# Altium footprint library DCDC_LDO.PcbLib: 11 footprints
Each footprint in its own frame and in the unit in brackets; x right, y up, seen from the top. Pads: shape width x height; smd on the part's side, far side on the other; paste and mask are expansions set on the pad; w line width, h text height; cw(c..) or ccw(c..) is an arc to the next point about the centre after c.
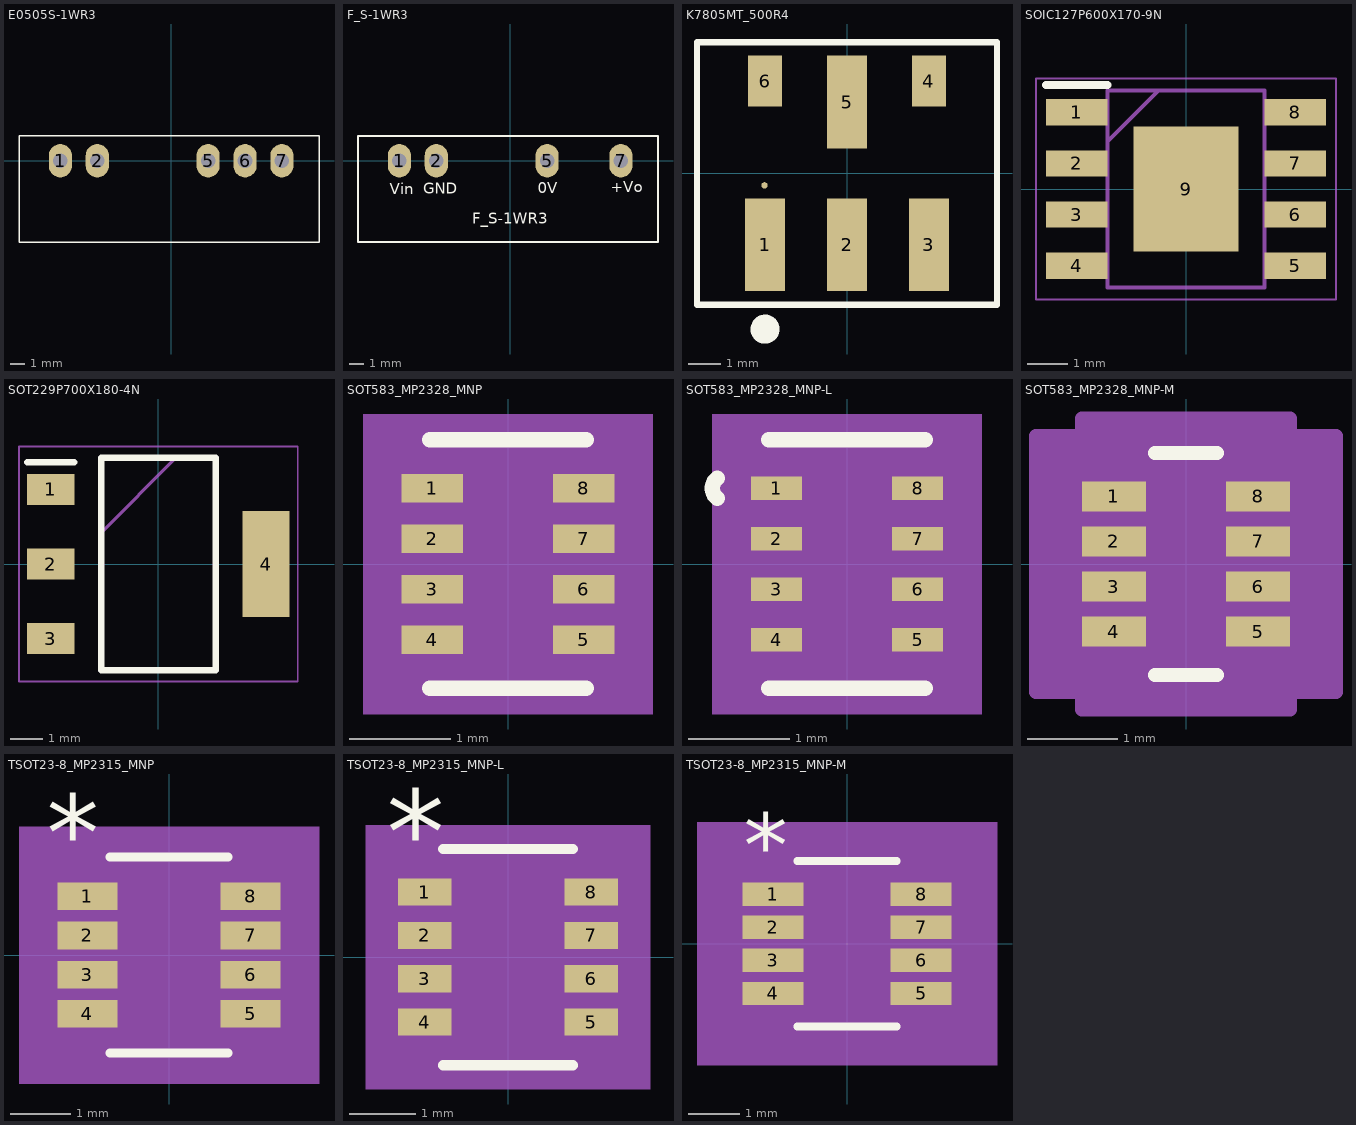
[diagram p0: the footprints below, top view; thin cyan lines are the x and y axes]

## E0505S-1WR3 [mm]
pads (5):
  oval 1.6x2.3 hole 1: 1(-7.62,0) 2(-5.08,0) 5(2.54,0) 6(5.08,0) 7(7.62,0)
Top Overlay:
  lines w0.102: -10.47,-5.6 -10.47,1.7 10.17,1.7 10.17,-5.6 -10.47,-5.6
3D body "E_S-1WR3.stp": height 10.16, standoff -4.1, extent -9.823,-5.121 9.827,0.879

## F_S-1WR3 [mm]
pads (4):
  oval 1.6x2.3 hole 1: 1(-7.62,0) 2(-5.08,0) 5(2.54,0) 7(7.62,0)
Top Overlay:
  lines w0.127: -10.47,-5.6 -10.47,1.7 10.17,1.7 10.17,-5.6 -10.47,-5.6
  text "F_S-1WR3" at -2.602,-4.346 h0.76
  text "Vin" at -8.284,-2.308 h0.76
  text "GND" at -5.969,-2.272 h0.76
  text "0V" at 1.905,-2.235 h0.76
  text "+Vo" at 6.936,-2.164 h0.76
3D body "F_S-1WR3.stp": height 10.16, standoff -4.1, extent -9.946,-5.118 9.704,0.882

## K7805MT_500R4 [mm]
pads (7):
  round 0.2 smd mask+0.1: 0(-2.557,-0.369)
  rect 1.25x2.87 smd mask+0.102: 1(-2.54,-2.215) 2(0,-2.215) 3(2.54,-2.215) 5(0,2.215)
  rect 1.05x1.58 smd mask+0.102: 4(2.54,2.86) 6(-2.54,2.86)
Top Overlay:
  lines w0.2: -4.65,-4.064 4.65,-4.064 4.65,4.064 -4.65,4.064 -4.65,-4.064
  lines w0.5: -2.35,-4.889 cw(c-2.54,-4.826) -2.342,-4.851
3D body "K78_MT-500R4.stp": height 3.1, standoff -0.01, extent -4.373,-3.533 4.627,3.467

## SOIC127P600X170-9N [mm]
pads (9):
  rect 1.525x0.65 smd: 1(-2.712,1.905) 2(-2.712,0.635) 3(-2.712,-0.635) 4(-2.712,-1.905) 5(2.712,-1.905) 6(2.712,-0.635) 7(2.712,0.635) 8(2.712,1.905)
  rect 2.6x3.1 smd: 9(0,0)
Top Overlay:
  lines w0.2: -3.475,2.58 -1.95,2.58
Mechanical 13:
  lines w0.1: -1.95,1.18 -0.68,2.45 ; -1.95,-2.45 -1.95,2.45 1.95,2.45 1.95,-2.45 -1.95,-2.45
Mechanical 15:
  lines w0.05: -3.725,-2.75 -3.725,2.75 3.725,2.75 3.725,-2.75 -3.725,-2.75
3D body "TPS5450DDA.stp": height 1.57, standoff 0, extent -3.014,-2.45 3.014,2.45

## SOT229P700X180-4N [mm]
pads (4):
  rect 1.45x0.95 smd: 1(-3.3,2.29) 2(-3.3,0) 3(-3.3,-2.29)
  rect 1.45x3.25 smd: 4(3.3,0)
Top Overlay:
  lines w0.2: -4.025,3.115 -2.575,3.115 ; -1.752,-3.252 1.752,-3.252 1.752,3.252 -1.752,3.252 -1.752,-3.252
Mechanical 13:
  lines w0.1: -1.752,0.962 0.538,3.252 ; -1.752,-3.252 1.752,-3.252 1.752,3.252 -1.752,3.252 -1.752,-3.252
Mechanical 15:
  lines w0.05: -4.275,-3.605 4.275,-3.605 4.275,3.605 -4.275,3.605 -4.275,-3.605
3D body "AMS1117-3.3.stp": height 1.8, standoff 0, extent -3.355,-3.15 3.355,3.15

## SOT583_MP2328_MNP [mil]
pads (8):
  rect 24x11 smd paste+0 mask+0: 1(-29.5,29.53) 2(-29.5,9.84) 3(-29.5,-9.84) 4(-29.5,-29.53) 5(29.5,-29.53) 6(29.5,-9.84) 7(29.5,9.84) 8(29.5,29.53)
Top Overlay:
  lines w6: -30.5,-48.5 30.5,-48.5 ; -30.5,48.5 30.5,48.5
Mechanical 5:
  region: 56.5,-58.5 -56.5,-58.5 -56.5,58.5 56.5,58.5
Mechanical 13:
  circle w0: c-17.5,29.53 r3
  lines w0: -12,43.5 ccw(c0,43.5) 12,43.5
  lines w1: -25.5,-43.5 25.5,-43.5 25.5,43.5 -25.5,43.5 -25.5,-43.5
Mechanical 15:
  region: 35.5,-53.5 -35.5,-53.5 -35.5,-45.03 -51.5,-45.03 -51.5,45.03 -35.5,45.03 -35.5,53.5 35.5,53.5 35.5,45.03 51.5,45.03 51.5,-45.03 35.5,-45.03
  lines w6: -51.5,-45.03 -35.5,-45.03 -35.5,-53.5 35.5,-53.5 35.5,-45.03 51.5,-45.03 51.5,45.03 35.5,45.03 35.5,53.5 -35.5,53.5 -35.5,45.03 -51.5,45.03 -51.5,-45.03
3D body "SOT583_MP2328_MNP.step": height 22.09, standoff 0, extent -33.5,-43.5 33.51,43.51

## SOT583_MP2328_MNP-L [mil]
pads (8):
  rect 20x9 smd paste+0 mask+0: 1(-27.5,29.53) 2(-27.5,9.84) 3(-27.5,-9.84) 4(-27.5,-29.53) 5(27.5,-29.53) 6(27.5,-9.84) 7(27.5,9.84) 8(27.5,29.53)
Top Overlay:
  lines w6: -50.6,25.6 cw(c-47.5,29.53) -50.6,33.45 ; -30.5,-48.5 30.5,-48.5 ; -30.5,48.5 30.5,48.5
Mechanical 5:
  region: 52.5,-58.5 -52.5,-58.5 -52.5,58.5 52.5,58.5
Mechanical 13:
  circle w0: c-17.5,29.53 r3
  lines w0: -12,43.5 ccw(c0,43.5) 12,43.5
  lines w1: -25.5,-43.5 25.5,-43.5 25.5,43.5 -25.5,43.5 -25.5,-43.5
Mechanical 15:
  region: 29.5,-47.5 -29.5,-47.5 -29.5,-38.03 -41.5,-38.03 -41.5,38.03 -29.5,38.03 -29.5,47.5 29.5,47.5 29.5,38.03 41.5,38.03 41.5,-38.03 29.5,-38.03
  lines w6: -41.5,-38.03 -29.5,-38.03 -29.5,-47.5 29.5,-47.5 29.5,-38.03 41.5,-38.03 41.5,38.03 29.5,38.03 29.5,47.5 -29.5,47.5 -29.5,38.03 -41.5,38.03 -41.5,-38.03
3D body "SOT583_MP2328_MNP.step": height 22.09, standoff 0, extent -33.5,-43.5 33.51,43.51

## SOT583_MP2328_MNP-M [mil]
pads (8):
  rect 28x13 smd paste+0 mask+0: 1(-31.5,29.53) 2(-31.5,9.84) 3(-31.5,-9.84) 4(-31.5,-29.53) 5(31.5,-29.53) 6(31.5,-9.84) 7(31.5,9.84) 8(31.5,29.53)
Top Overlay:
  lines w6: -13.49,-48.5 13.49,-48.5 ; -13.49,48.5 13.49,48.5
Mechanical 5:
  region: 60.5,-58.5 -60.5,-58.5 -60.5,58.5 60.5,58.5
Mechanical 13:
  circle w0: c-17.5,29.53 r3
  lines w0: -12,43.5 ccw(c0,43.5) 12,43.5
  lines w1: -25.5,-43.5 -25.5,43.5 25.5,43.5 25.5,-43.5 -25.5,-43.5
Mechanical 15:
  region: 45.5,-63.5 -45.5,-63.5 -45.5,-56.03 -65.5,-56.03 -65.5,56.03 -45.5,56.03 -45.5,63.5 45.5,63.5 45.5,56.03 65.5,56.03 65.5,-56.03 45.5,-56.03
  lines w6: -65.5,-56.03 -65.5,56.03 -45.5,56.03 -45.5,63.5 45.5,63.5 45.5,56.03 65.5,56.03 65.5,-56.03 45.5,-56.03 45.5,-63.5 -45.5,-63.5 -45.5,-56.03 -65.5,-56.03
3D body "SOT583_MP2328_MNP.step": height 22.09, standoff 0, extent -33.5,-43.5 33.51,43.51

## TSOT23-8_MP2315_MNP [mil]
pads (8):
  rect 39.5x18 smd paste+0 mask+0: 1(-53.25,38.39) 2(-53.25,12.8) 3(-53.25,-12.8) 4(-53.25,-38.39) 5(53.25,-38.39) 6(53.25,-12.8) 7(53.25,12.8) 8(53.25,38.39)
Top Overlay:
  lines w6: -38.5,-64 38.5,-64 ; -38.5,64 38.5,64
  text "*" at -80,55 h50
Mechanical 5:
  region: 98,-84 -98,-84 -98,84 98,84
Mechanical 13:
  lines w0: -12,59 ccw(c0,59) 12,59
  lines w1: -59,-46.39 -59,-30.39 -33.5,-30.39 -33.5,-46.39 -59,-46.39 ; -59,-20.8 -59,-4.8 -33.5,-4.8 -33.5,-20.8 -59,-20.8 ; -59,4.8 -59,20.8 -33.5,20.8 -33.5,4.8 -59,4.8 ; -59,30.39 -59,46.39 -33.5,46.39 -33.5,30.39 -59,30.39 ; -33.5,-59 33.5,-59 33.5,59 -33.5,59 -33.5,-59 ; 33.5,-46.39 33.5,-30.39 59,-30.39 59,-46.39 33.5,-46.39 ; 33.5,-20.8 33.5,-4.8 59,-4.8 59,-20.8 33.5,-20.8 ; 33.5,4.8 33.5,20.8 59,20.8 59,4.8 33.5,4.8 ; 33.5,30.39 33.5,46.39 59,46.39 59,30.39 33.5,30.39
  text "*" at -31,6 h50
Mechanical 15:
  region: -43.5,-57.39 -83,-57.39 -83,57.39 -43.5,57.39 -43.5,69 43.5,69 43.5,57.39 83,57.39 83,-57.39 43.5,-57.39 43.5,-69 -43.5,-69
  lines w6: -83,-57.39 -83,57.39 -43.5,57.39 -43.5,69 43.5,69 43.5,57.39 83,57.39 83,-57.39 43.5,-57.39 43.5,-69 -43.5,-69 -43.5,-57.39 -83,-57.39
3D body "TSOT23-8_MP2315S_MNP.step": height 39.09, standoff 0, extent -59.01,-59.01 59.02,59.02

## TSOT23-8_MP2315_MNP-L [mil]
pads (8):
  rect 31.5x16 smd paste+0 mask+0: 1(-49.25,38.39) 2(-49.25,12.8) 3(-49.25,-12.8) 4(-49.25,-38.39) 5(49.25,-38.39) 6(49.25,-12.8) 7(49.25,12.8) 8(49.25,38.39)
Top Overlay:
  lines w6: -38.5,-64 38.5,-64 ; -38.5,64 38.5,64
  text "*" at -71.75,49.39 h50
Mechanical 5:
  region: 84,-78 -84,-78 -84,78 84,78
Mechanical 13:
  lines w0: -12,59 ccw(c0,59) 12,59
  lines w1: -59,-46.39 -33.5,-46.39 -33.5,-30.39 -59,-30.39 -59,-46.39 ; -59,-20.8 -33.5,-20.8 -33.5,-4.8 -59,-4.8 -59,-20.8 ; -59,4.8 -33.5,4.8 -33.5,20.8 -59,20.8 -59,4.8 ; -59,30.39 -33.5,30.39 -33.5,46.39 -59,46.39 -59,30.39 ; -33.5,-59 -33.5,59 33.5,59 33.5,-59 -33.5,-59 ; 33.5,-46.39 59,-46.39 59,-30.39 33.5,-30.39 33.5,-46.39 ; 33.5,-20.8 59,-20.8 59,-4.8 33.5,-4.8 33.5,-20.8 ; 33.5,4.8 59,4.8 59,20.8 33.5,20.8 33.5,4.8 ; 33.5,30.39 59,30.39 59,46.39 33.5,46.39 33.5,30.39
  text "*" at -31,6 h50
Mechanical 15:
  region: -37.5,-50.39 -69,-50.39 -69,50.39 -37.5,50.39 -37.5,63 37.5,63 37.5,50.39 69,50.39 69,-50.39 37.5,-50.39 37.5,-63 -37.5,-63
  lines w6: -69,-50.39 -37.5,-50.39 -37.5,-63 37.5,-63 37.5,-50.39 69,-50.39 69,50.39 37.5,50.39 37.5,63 -37.5,63 -37.5,50.39 -69,50.39 -69,-50.39
3D body "TSOT23-8_MP2315S_MNP.step": height 39.09, standoff 0, extent -59.01,-59.01 59.02,59.02

## TSOT23-8_MP2315_MNP-M [mil]
pads (8):
  rect 47.5x18 smd paste+0 mask+0: 1(-57.25,38.39) 2(-57.25,12.8) 3(-57.25,-12.8) 4(-57.25,-38.39) 5(57.25,-38.39) 6(57.25,-12.8) 7(57.25,12.8) 8(57.25,38.39)
Top Overlay:
  lines w6: -38.5,-64 38.5,-64 ; -38.5,64 38.5,64
  text "*" at -79.75,51.39 h50
Mechanical 5:
  region: 116,-94 -116,-94 -116,94 116,94
Mechanical 13:
  lines w0: -12,59 ccw(c0,59) 12,59
  lines w1: -59,-46.39 -59,-30.39 -33.5,-30.39 -33.5,-46.39 -59,-46.39 ; -59,-20.8 -59,-4.8 -33.5,-4.8 -33.5,-20.8 -59,-20.8 ; -59,4.8 -59,20.8 -33.5,20.8 -33.5,4.8 -59,4.8 ; -59,30.39 -59,46.39 -33.5,46.39 -33.5,30.39 -59,30.39 ; -33.5,-59 33.5,-59 33.5,59 -33.5,59 -33.5,-59 ; 33.5,-46.39 33.5,-30.39 59,-30.39 59,-46.39 33.5,-46.39 ; 33.5,-20.8 33.5,-4.8 59,-4.8 59,-20.8 33.5,-20.8 ; 33.5,4.8 33.5,20.8 59,20.8 59,4.8 33.5,4.8 ; 33.5,30.39 33.5,46.39 59,46.39 59,30.39 33.5,30.39
  text "*" at -31,6 h50
Mechanical 15:
  region: -53.5,-67.39 -101,-67.39 -101,67.39 -53.5,67.39 -53.5,79 53.5,79 53.5,67.39 101,67.39 101,-67.39 53.5,-67.39 53.5,-79 -53.5,-79
  lines w6: -101,-67.39 -101,67.39 -53.5,67.39 -53.5,79 53.5,79 53.5,67.39 101,67.39 101,-67.39 53.5,-67.39 53.5,-79 -53.5,-79 -53.5,-67.39 -101,-67.39
3D body "TSOT23-8_MP2315S_MNP.step": height 39.09, standoff 0, extent -59.01,-59.01 59.02,59.02